# Altium schematic symbol library BFP620H7764XTSA1.SchLib: 1 symbol
Pins are listed as number, name and electrical type; pins without a type are passive.

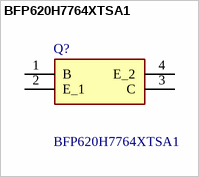
[diagram p0: symbol BFP620H7764XTSA1]

## BFP620H7764XTSA1
designator Q?
RF Bipolar Transistors RF BIP TRANSISTOR; Manufacturer_Name: Infineon; Geometry.Height: 1mm; Mouser Part Number: 726-BFP620H7764XTSA1; Mouser Price/Stock: https://www.mouser.co.uk/ProductDetail/Infineon-Technologies/BFP620H7764XTSA1?qs=K00xGehIljsJB9eGzWKrqA%3D%3D; Manufacturer_Part_Number: BFP620H7764XTSA1; Datasheet Link: https://www.infineon.com/dgdl/Infineon-BFP620-DS-v02_00-EN.pdf?fileId=5546d462689a790c01690f0396db3924
footprint BFP620H7764XTSA1
pins: 1 B, 2 E_1, 3 C, 4 E_2